# Altium schematic symbol library SN74LVC32ARGYR.SchLib: 1 symbol
Pins are listed as number, name and electrical type; pins without a type are passive.

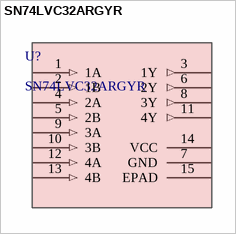
[diagram p0: symbol SN74LVC32ARGYR]

## SN74LVC32ARGYR
designator U?
Four-channel, two-input, 1.65V to 3.6V 24mA drive strength OR gate 14-VQFN -40 to 125; Manufacturer_Name: Texas Instruments; Copyright: Copyright (C) 2025 Ultra Librarian. All rights reserved.; Manufacturer_Part_Number: SN74LVC32ARGYR; RefDes: RefDes; Type: Type
footprint RGY14_2P05X2P05
pins: 1 1A (in), 2 1B (in), 3 1Y (out), 4 2A (in), 5 2B (in), 6 2Y (out), 7 GND (power), 8 3Y (out), 9 3A (in), 10 3B (in), 11 4Y (out), 12 4A (in), 13 4B (in), 14 VCC (power), 15 EPAD